# Altium footprint library GRAVITECH_8FX1-254MM.PcbLib: 1 footprints
Each footprint in its own frame and in the unit in brackets; x right, y up, seen from the top. Pads: shape width x height; smd on the part's side, far side on the other; paste and mask are expansions set on the pad; w line width, h text height; cw(c..) or ccw(c..) is an arc to the next point about the centre after c.
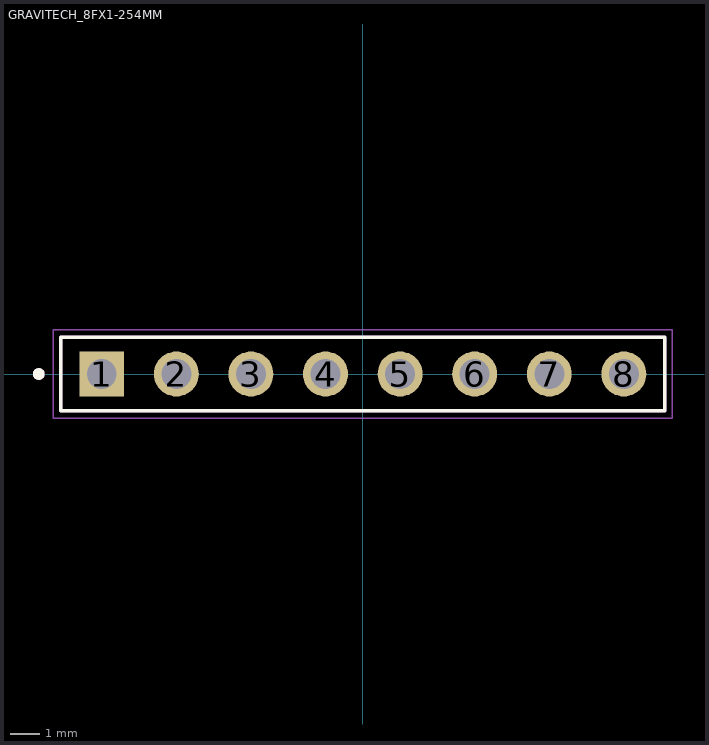
[diagram p0: the footprint, top view; thin cyan lines are the x and y axes]

## GRAVITECH_8FX1-254MM [mm]
height 8.65
pads (8):
  rect 1.53x1.53 hole 1.02: 1(-8.89,0)
  round 1.53 hole 1.02: 2(-6.35,0) 3(-3.81,0) 4(-1.27,0) 5(1.27,0) 6(3.81,0) 7(6.35,0) 8(8.89,0)
Top Overlay:
  circle w0.2: c-11.035,0 r0.1
  lines w0.127: -10.285,-1.25 10.285,-1.25 10.285,1.25 -10.285,1.25 -10.285,-1.25
Mechanical 13:
  circle w0.2: c-11.035,0 r0.1
  lines w0.127: -10.285,-1.25 10.285,-1.25 10.285,1.25 -10.285,1.25 -10.285,-1.25
Mechanical 15:
  lines w0.05: -10.535,-1.5 -10.535,1.5 10.535,1.5 10.535,-1.5 -10.535,-1.5
3D body "step_temp.STEP": height 8.65, standoff -3.4, extent -10.285,-1.25 10.285,1.25